# Altium footprint library PCB - CAPACITOR - CHIP - CAPC_1812.PCBLIB: 1 footprints
Each footprint in its own frame and in the unit in brackets; x right, y up, seen from the top. Pads: shape width x height; smd on the part's side, far side on the other; paste and mask are expansions set on the pad; w line width, h text height; cw(c..) or ccw(c..) is an arc to the next point about the centre after c.
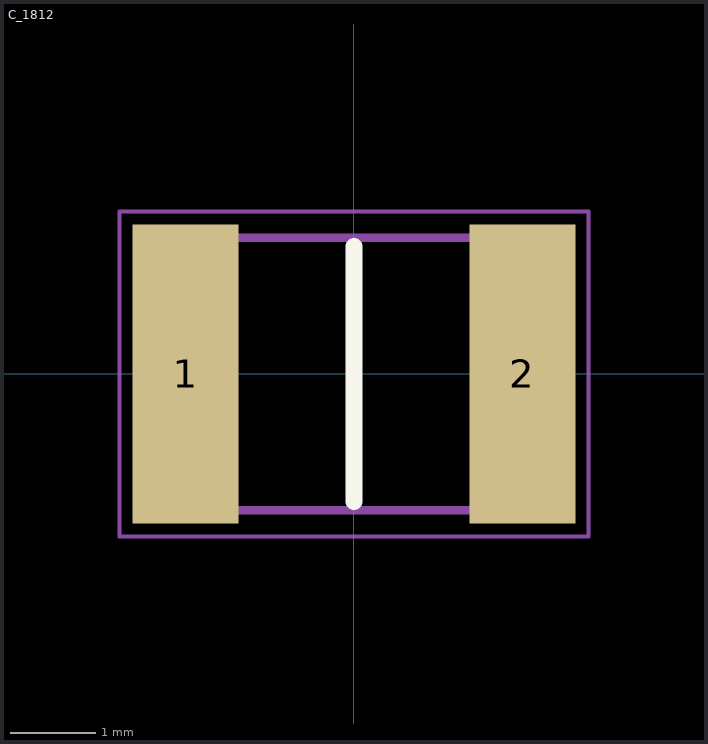
[diagram p0: the footprint, top view; thin cyan lines are the x and y axes]

## C_1812 [mm]
pads (2):
  rect 1.25x3.52 smd: 1(-1.98,0) 2(1.98,0)
Top Overlay:
  lines w0.2: 0,-1.5 0,1.5
Mechanical 13:
  lines w0.1: -2.25,-1.6 -2.25,1.6 2.25,1.6 2.25,-1.6 -2.25,-1.6
Mechanical 15:
  lines w0.05: -2.755,-1.91 -2.755,1.91 2.755,1.91 2.755,-1.91 -2.755,-1.91
3D body "C1812V334KCRACTU.stp": height 2.3, standoff 0, extent -2.25,-1.6 2.25,1.6